# EAGLE library part PCM1704 (library toslink)
24-Bit, 96kHz BiCMOS Sign-Magnitude DAC
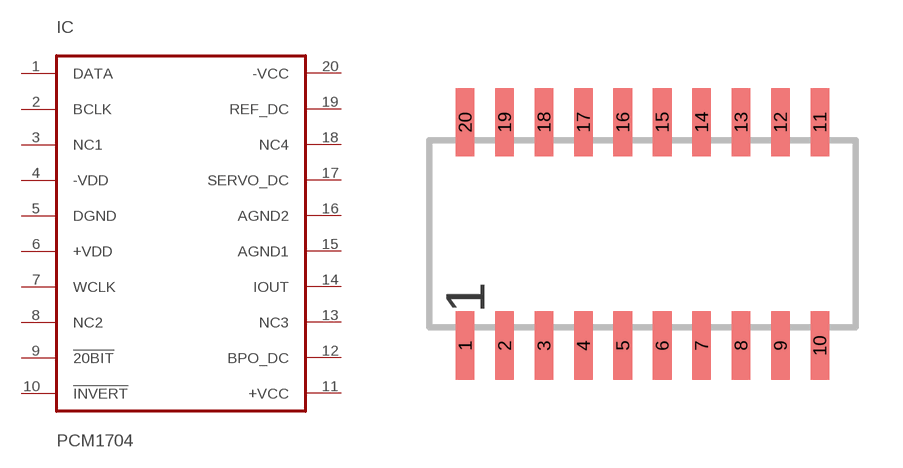
[diagram p11: symbol with the pads of SOP20; footprint SOP20]

Designator prefix IC

## PCM1704  [SOP20]
1  DATA  in
2  BCLK  in
3  NC1  nc
4  -VDD  pwr
5  DGND  pwr
6  +VDD  pwr
7  WCLK  in
8  NC2  nc
9  !20BIT  in
10  !INVERT  in
11  +VCC  pwr
12  BPO_DC  pwr
13  NC3  nc
14  IOUT  out
15  AGND1  pwr
16  AGND2  pwr
17  SERVO_DC  pwr
18  NC4  nc
19  REF_DC  pwr
20  -VCC  pwr

## Footprint SOP20 (pad centres in mm)
SMALL OUTLINE PACKAGE
smd 0.6 x 2.2: 1 -5.715,-3.6; 2 -4.445,-3.6; 3 -3.175,-3.6; 4 -1.905,-3.6; 5 -0.635,-3.6; 6 0.635,-3.6; 7 1.905,-3.6; 8 3.175,-3.6; 9 4.445,-3.6; 10 5.715,-3.6; 11 5.715,3.6; 12 4.445,3.6; 13 3.175,3.6; 14 1.905,3.6; 15 0.635,3.6; 16 -0.635,3.6; 17 -1.905,3.6; 18 -3.175,3.6; 19 -4.445,3.6; 20 -5.715,3.6